# Altium schematic symbol library VibinTest1_1.SCHLIB: 8 symbols
Pins are listed as number, name and electrical type; pins without a type are passive.

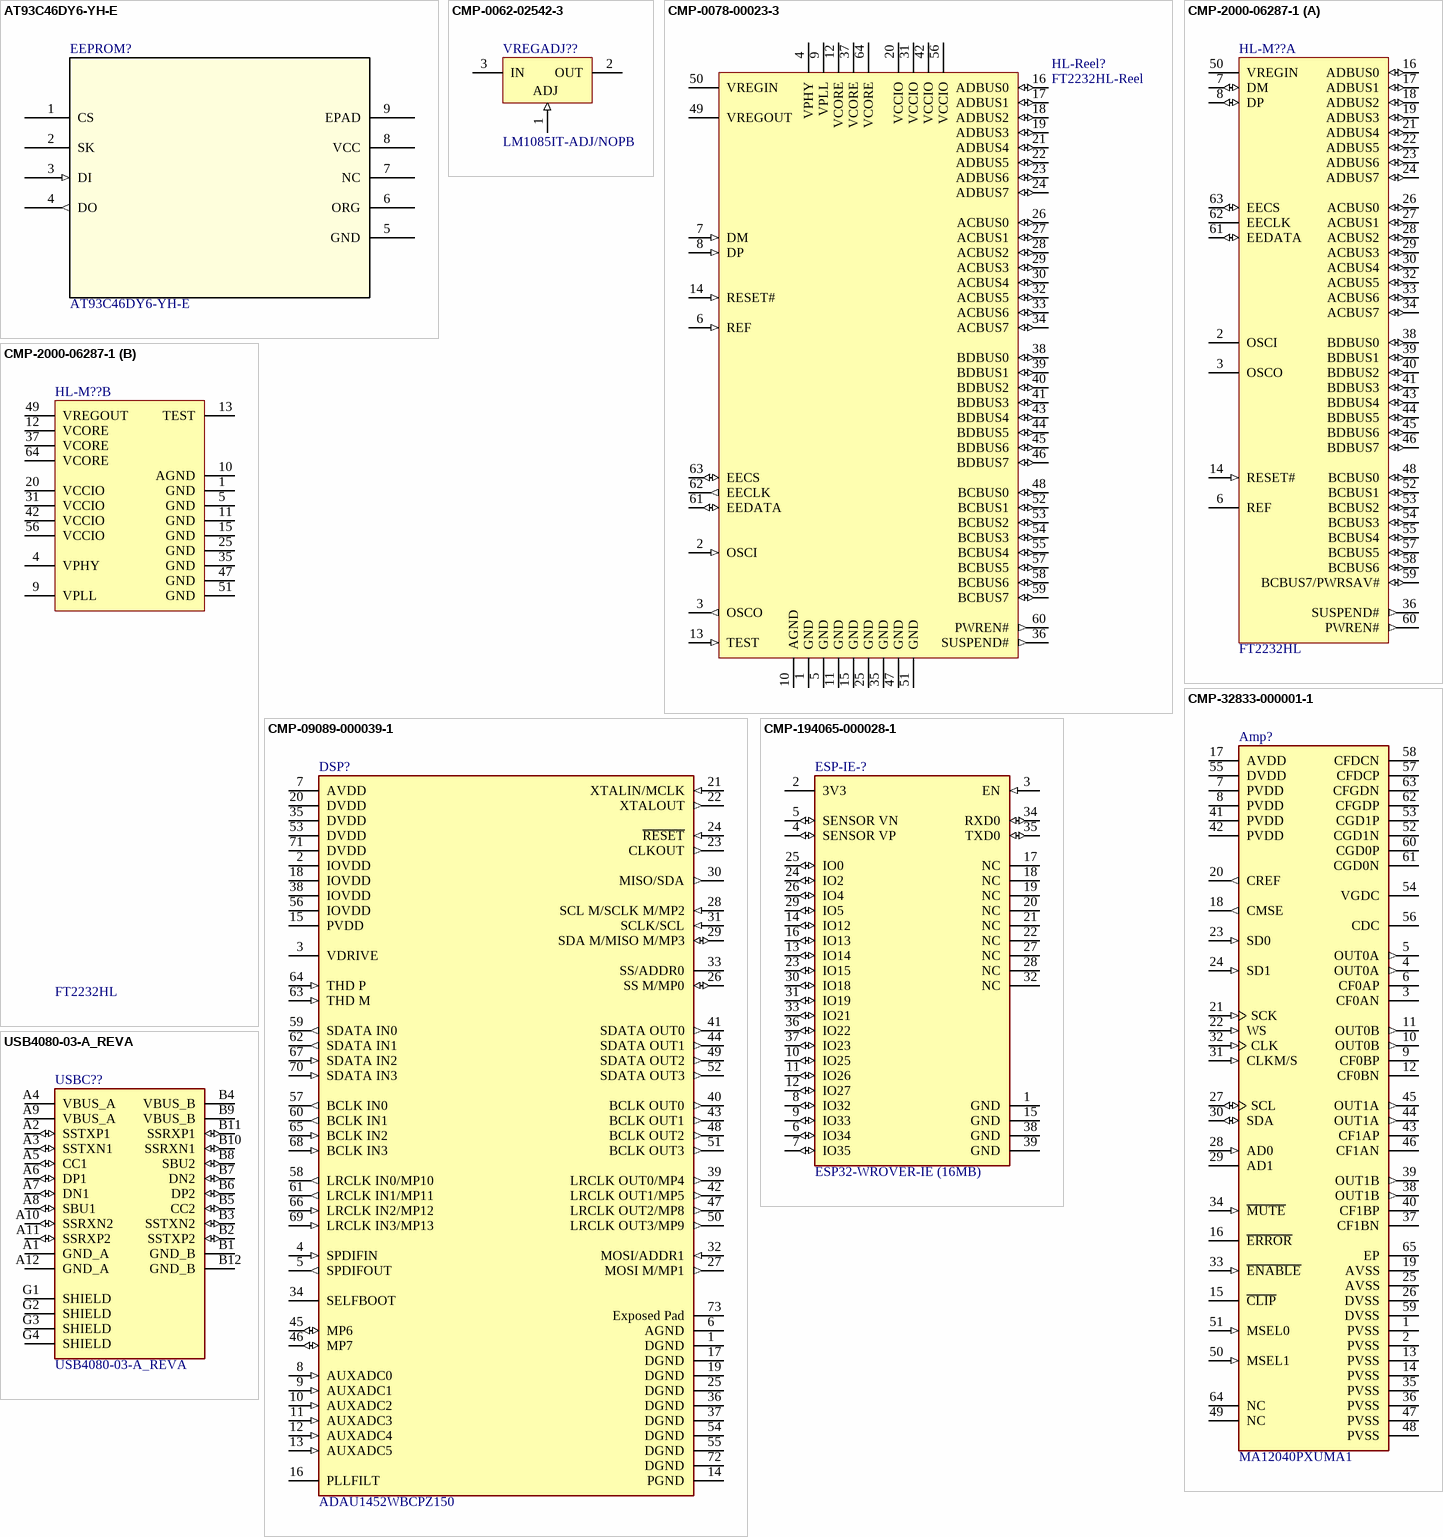
[diagram p0: symbols AT93C46DY6-YH-E to USB4080-03-A_REVA]

## AT93C46DY6-YH-E
designator EEPROM?
No Description Available; Mfr_Name: Microchip; Copyright: Copyright (C) 2022 Ultra Librarian. All rights reserved.; Manufacturer_Part_Number: AT93C46DY6-YH-E; Digi-Key_Part_Number_1: AT93C46DY6-YH-ECT-ND; Digi-Key_Part_Number_2: AT93C46DY6-YH-EDKR-ND; Digi-Key_Part_Number_3: AT93C46DY6-YH-ETR-ND; RefDes: RefDes; Type: DEV
footprint 8Y6_MCH
pins: 1 CS, 2 SK, 3 DI (in), 4 DO (out), 5 GND (power), 6 ORG (power), 7 NC, 8 VCC (power), 9 EPAD

## CMP-0062-02542-3
designator VREGADJ??, comment LM1085IT-ADJ/NOPB
3A Low Dropout Positive Regulators, 3-pin TO-220, Pb-Free; Manufacturer: Texas Instruments; Manufacturer: TI National Semiconductor; PowerWise: N; CompType: LDO IC; PackageTopMarking: NSUZXYTTE#*LM1085*IT-ADJ; ComponentLink1URL: http://www.ti.com/general/docs/lit/getliterature.tsp?genericPartNumber=LM1085&fileType=pdf; PackageDescription: TO-220, Molded, 3 Lead, Straight; PinCount: 3; ComponentLink1Description: Datasheet URL; PackageReference: NDE0003A; RoHS: Y; Manufacturer Part Number: LM1085IT-ADJ/NOPB
footprint NDE0003A (FM, 3-Leads, Body 10.7x4.7mm, Pitch 2.54mm)
pins: 1 ADJ (in), 2 OUT (power), 3 IN (power)

## CMP-0078-00023-3
designator HL-Reel?, comment FT2232HL-Reel
Dual High Speed USB To Multipurpose UART/FIFO IC, 64-pin LQFP, Tape and Reel; Manufacturer: FTDI; DatasheetVersion: ver 2.21, Jun-2012; ComponentLink1URL: http://www.ftdichip.com/; PartNumber: FT2232HL-Reel; ComponentLink2Description: Datasheet; RevisionNote: DatasheetVersion updated to 2.21 Jun-2012; PackageVersion: Jun-12; ComponentLink1Description: Manufacturer URL; ComponentLink2URL: http://www.ftdichip.com/Support/Documents/DataSheets/ICs/DS_FT2232H.pdf; PackageReference: LQFP-64; PackageDescription: 64-Pin Thin Quad Flat Pack, 10 x 10 x 1.4 mm Body, 0.5 mm Pitch; Manufacturer Part Number: FT2232HL-REEL
footprint LQFP-64_M (Thin QFP, 64-Leads, Body 10x10mm, Pitch 0.5mm, IPC Low Density)
footprint LQFP-64_L (Thin QFP, 64-Leads, Body 10x10mm, Pitch 0.5mm, IPC High Density)
footprint FTDI-LQFP-64_M (QFP, 64-Leads, Body 10.00x10.00mm, Pitch 0.50mm, IPC Low Density)
footprint FTDI-LQFP-64_M (QFP, 64-Leads, Body 10.00x10.00mm, Pitch 0.50mm, IPC Low Density)
pins: 1 GND (power), 2 OSCI (in), 3 OSCO (out), 4 VPHY (power), 5 GND (power), 6 REF (in), 7 DM (in), 8 DP (in), 9 VPLL (power), 10 AGND (power), 11 GND (power), 12 VCORE (power), 13 TEST (in), 14 RESET# (in), 15 GND (power), 16 ADBUS0 (io), 17 ADBUS1 (io), 18 ADBUS2 (io), 19 ADBUS3 (io), 20 VCCIO (power), 21 ADBUS4 (io), 22 ADBUS5 (io), 23 ADBUS6 (io), 24 ADBUS7 (io), 25 GND (power), 26 ACBUS0 (io), 27 ACBUS1 (io), 28 ACBUS2 (io), 29 ACBUS3 (io), 30 ACBUS4 (io), 31 VCCIO (power), 32 ACBUS5 (io), 33 ACBUS6 (io), 34 ACBUS7 (io), 35 GND (power), 36 SUSPEND# (out), 37 VCORE (power), 38 BDBUS0 (io), 39 BDBUS1 (io), 40 BDBUS2 (io), 41 BDBUS3 (io), 42 VCCIO (power), 43 BDBUS4 (io), 44 BDBUS5 (io), 45 BDBUS6 (io), 46 BDBUS7 (io), 47 GND (power), 48 BCBUS0 (io), 49 VREGOUT (power), 50 VREGIN (power), 51 GND (power), 52 BCBUS1 (io), 53 BCBUS2 (io), 54 BCBUS3 (io), 55 BCBUS4 (io), 56 VCCIO (power), 57 BCBUS5 (io), 58 BCBUS6 (io), 59 BCBUS7 (io), 60 PWREN# (out), 61 EEDATA (io), 62 EECLK (out), 63 EECS (io), 64 VCORE (power)

## CMP-2000-06287-1
designator HL-M??, comment FT2232HL
Dual High Speed USB to Multipurpose UART / FIFO IC / , 3 to 3.6 V, -40 to 85 degC, 64- Pin LQFP, RoHS; Manufacturer: FTDI; Number of Channels per Chip: 2; Standard Supported: RS232,RS422,RS485; Maximum Data Rate: 480Mbit/s; Package Description: 64-Pin Low-profile Quad Flat Package, Body 10 x 10 mm, Pitch 0.5 mm; Maximum Operating Temperature: +85°C; Mounting Technology: SurfaceMount; Pin Count: 64; Package Reference: LQFP-64; Manufacturer URL: http://www.nxp.com/; Length: 10mm; Width: 10mm; Minimum Operating Temperature: -40°C; Dimensions: 10x10x1.4mm; Package Type: LQFP; Mounting Type: SurfaceMount; Datasheet URL: http://www.ftdichip.com/Support/Documents/DataSheets/ICs/DS_FT2232H.pdf; Datasheet Version: Rev. 2.5, 07/2016; Height: 1.4mm; Manufacturer Part Number: FT2232HL
footprint FTDI-LQFP-64_L (QFP, 64-Leads, Body 10.00x10.00mm, Pitch 0.50mm, IPC High Density)
footprint FTDI-LQFP-64_M (QFP, 64-Leads, Body 10.00x10.00mm, Pitch 0.50mm, IPC Low Density)
footprint FTDI-LQFP-64_N (QFP, 64-Leads, Body 10.00x10.00mm, Pitch 0.50mm, IPC Medium Density)
part A pins: 2 OSCI "Oscillator input.", 3 OSCO "Oscillator output.", 6 REF "Current reference - connect via a 12Kohm resistor @ 1% to GND.", 7 DM (io) "USB Data Signal Minus.", 8 DP (io) "USB Data Signal Plus.", 14 RESET# (in) "Reset input (active low).", 16 ADBUS0 (io) "D0 bidirectional FIFO data", 17 ADBUS1 (io) "D1 bidirectional FIFO data", 18 ADBUS2 (io) "D2 bidirectional FIFO data", 19 ADBUS3 (io) "D3 bidirectional FIFO data", 21 ADBUS4 (io) "D4 bidirectional FIFO data", 22 ADBUS5 (io) "D5 bidirectional FIFO data", 23 ADBUS6 (io) "D6 bidirectional FIFO data", 24 ADBUS7 (io) "D7 bidirectional FIFO data", 26 ACBUS0 (io) "C0 bidirectional FIFO data", 27 ACBUS1 (io) "C1 bidirectional FIFO data", 28 ACBUS2 (io) "C2 bidirectional FIFO data", 29 ACBUS3 (io) "C3 bidirectional FIFO data", 30 ACBUS4 (io) "C4 bidirectional FIFO data", 32 ACBUS5 (io) "C5 bidirectional FIFO data", 33 ACBUS6 (io) "C6 bidirectional FIFO data", 34 ACBUS7 (io) "C7 bidirectional FIFO data", 36 SUSPEND# (out) "Active low when USB is in suspend mode.", 38 BDBUS0 (io) "D0 bidirectional FIFO data", 39 BDBUS1 (io) "D1 bidirectional FIFO data", 40 BDBUS2 (io) "D2 bidirectional FIFO data", 41 BDBUS3 (io) "D3 bidirectional FIFO data", 43 BDBUS4 (io) "D4 bidirectional FIFO data", 44 BDBUS5 (io) "D5 bidirectional FIFO data", 45 BDBUS6 (io) "D6 bidirectional FIFO data", 46 BDBUS7 (io) "D7 bidirectional FIFO data", 48 BCBUS0 (io) "C0 bidirectional FIFO data", 50 VREGIN (power) "+3.3V Input. Integrated 1.8V voltage regulator input.", 52 BCBUS1 (io) "C1 bidirectional FIFO data", 53 BCBUS2 (io) "C2 bidirectional FIFO data", 54 BCBUS3 (io) "C3 bidirectional FIFO data", 55 BCBUS4 (io) "C4 bidirectional FIFO data", 57 BCBUS5 (io) "C5 bidirectional FIFO data", 58 BCBUS6 (io) "C6 bidirectional FIFO data", 59 BCBUS7/PWRSAV# (io), 60 PWREN# (out) "Active low power-enable output.", 61 EEDATA (io) "EEPROM - Data I/O Connect directly to Data-In of the EEPROM and to Data-Out of the EEPROM via a 2.2K resistor. Also, pull Data-Out of the EEPROM to VCC via a 10K resistor for correct operation. Tri-State during device reset.", 62 EECLK (hiz) "Clock signal to EEPROM. Tri-State during device reset. When not in reset, this outputs the EEPROM clock.", 63 EECS (io) "EEPROM - Chip Select. Tri-State during device reset."
part B pins: 1 GND (power) "0V Ground input.", 4 VPHY (power) "+3.3V Input. Internal USB PHY power supply input. Note that this cannot be connected directly to the USB supply. A +3.3V regulator must be used. It is recommended that this supply is filtered using an LC filter.", 5 GND (power) "0V Ground input.", 9 VPLL (power) "+3.3V input. Internal PHY PLL power supply input. It is recommended that this supply is filtered using an LC filter.", 10 AGND (power) "0V Analog ground.", 11 GND (power) "0V Ground input.", 12 VCORE (power) "+1.8V input. Core supply voltage input.", 13 TEST "IC test pin - for normal operation should be connected to GND.", 15 GND (power) "0V Ground input.", 20 VCCIO (power) "+3.3V input. I/O interface power supply input. Failure to connect all VCCIO pins will result in failure of the device.", 25 GND (power) "0V Ground input.", 31 VCCIO (power) "+3.3V input. I/O interface power supply input. Failure to connect all VCCIO pins will result in failure of the device.", 35 GND (power) "0V Ground input.", 37 VCORE (power) "+1.8V input. Core supply voltage input.", 42 VCCIO (power) "+3.3V input. I/O interface power supply input. Failure to connect all VCCIO pins will result in failure of the device.", 47 GND (power) "0V Ground input.", 49 VREGOUT (power) "+1.8V Output. Integrated voltage regulator output. Connect to VCORE with 3.3uF filter capacitor.", 51 GND (power) "0V Ground input.", 56 VCCIO (power) "+3.3V input. I/O interface power supply input. Failure to connect all VCCIO pins will result in failure of the device.", 64 VCORE (power) "+1.8V input. Core supply voltage input."

## CMP-09089-000039-1
designator DSP?, comment ADAU1452WBCPZ150
150 MHZ 32BIT SIGMADSP AUDIO PRO; Manufacturer: Analog Devices; RoHS Compliant: Yes; Manufacturer Part Number: ADAU1452WBCPZ150
footprint FP-CP-72-6-IPC_B
footprint FP-CP-72-6-IPC_A
footprint FP-CP-72-6-IPC_C
ibis ADAU1452 (Model Description)
pins: 1 DGND (power), 2 IOVDD (power), 3 VDRIVE (power), 4 SPDIFIN (in), 5 SPDIFOUT (out), 6 AGND (power), 7 AVDD (power), 8 AUXADC0 (in), 9 AUXADC1 (in), 10 AUXADC2 (in), 11 AUXADC3 (in), 12 AUXADC4 (in), 13 AUXADC5 (in), 14 PGND (power), 15 PVDD (power), 16 PLLFILT, 17 DGND (power), 18 IOVDD (power), 19 DGND (power), 20 DVDD (power), 21 XTALIN/MCLK (in), 22 XTALOUT (out), 23 CLKOUT (out), 24 ~{RESET} (in), 25 DGND (power), 26 SS M/MP0 (io), 27 MOSI M/MP1 (out), 28 SCL M/SCLK M/MP2 (in), 29 SDA M/MISO M/MP3 (io), 30 MISO/SDA (out), 31 SCLK/SCL (in), 32 MOSI/ADDR1 (in), 33 SS/ADDR0, 34 SELFBOOT, 35 DVDD (power), 36 DGND (power), 37 DGND (power), 38 IOVDD (power), 39 LRCLK OUT0/MP4 (out), 40 BCLK OUT0 (out), 41 SDATA OUT0 (out), 42 LRCLK OUT1/MP5 (out), 43 BCLK OUT1 (out), 44 SDATA OUT1 (out), 45 MP6 (io), 46 MP7 (io), 47 LRCLK OUT2/MP8 (out), 48 BCLK OUT2 (out), 49 SDATA OUT2 (out), 50 LRCLK OUT3/MP9 (out), 51 BCLK OUT3 (out), 52 SDATA OUT3 (out), 53 DVDD (power), 54 DGND (power), 55 DGND (power), 56 IOVDD (power), 57 BCLK IN0 (out), 58 LRCLK IN0/MP10 (out), 59 SDATA IN0 (out), 60 BCLK IN1 (out), 61 LRCLK IN1/MP11 (out), 62 SDATA IN1 (out), 63 THD M (in), 64 THD P (in), 65 BCLK IN2 (in), 66 LRCLK IN2/MP12 (in), 67 SDATA IN2 (in), 68 BCLK IN3 (in), 69 LRCLK IN3/MP13 (in), 70 SDATA IN3 (in), 71 DVDD (power), 72 DGND (power), 73 Exposed Pad (power)

## CMP-32833-000001-1
designator Amp?, comment MA12040PXUMA1
IC AMP CLASS D STEREO 40W 64QFN; Manufacturer: Infineon; Max Junction Temp: +150°C; Max Supply Voltage: 18V; Output Current Per Channel: 6A; Number Of Channels: 1; Min Supply Voltage: 4V; Nominal Supply Current: 6-38mA; Power At Speaker R: 20W @ 8Ω; Ambient Temperature Range High: +85°C; Ambient Temperature Range Low: 0°C; RoHS: TRUE; Temperature: -40°C to +150°C; Device Class L1: Integrated Circuits (ICs); Height: 0.9mm; Lead Free: Yes; Octopart: https://octopart.com/ma12040pxuma1-infineon-95984592; ComponentLink2URL: https://www.infineon.com/dgdl/Infineon-MA12040P-DS-v01_00-EN.pdf?fileId=5546d46264a8de7e0164b74ff0e561a2; Category: IC; Manufacturer Part Number: MA12040PXUMA1; Temperature Range High: +150°C; Ipc Land Pattern Name: QFN50P900X900X90-64; Automotive: No; Digikey Description: IC AMP CLASS D STEREO 40W 64QFN; Device Class L2: Linear ICs; Device Class L3: Amplifiers - Audio; Temperature Range Low: -40°C; Footprint Url: https://www.infineon.com/cms/en/product/packages/PG-VQFN/PG-VQFN-64-6/; ComponentLink2Description: Datasheet; Package: PG-VQFN-64
footprint FP-PG-VQFN-64-IPC_C
footprint FP-PG-VQFN-64-IPC_B
footprint FP-PG-VQFN-64-IPC_A
pins: 1 PVSS (power), 2 PVSS (power), 3 CF0AN, 4 OUT0A (out), 5 OUT0A (out), 6 CF0AP, 7 PVDD (power), 8 PVDD (power), 9 CF0BP, 10 OUT0B (out), 11 OUT0B (out), 12 CF0BN, 13 PVSS (power), 14 PVSS (power), 15 ~{CLIP} (oc), 16 ~{ERROR} (oc), 17 AVDD (power), 18 CMSE (out), 19 AVSS (power), 20 CREF (out), 21 SCK (in), 22 WS (in), 23 SD0 (in), 24 SD1 (in), 25 AVSS (power), 26 DVSS (power), 27 SCL (io), 28 AD0 (in), 29 AD1, 30 SDA (io), 31 CLKM/S (in), 32 CLK (in), 33 ~{ENABLE} (in), 34 ~{MUTE} (in), 35 PVSS (power), 36 PVSS (power), 37 CF1BN, 38 OUT1B (out), 39 OUT1B (out), 40 CF1BP, 41 PVDD (power), 42 PVDD (power), 43 CF1AP, 44 OUT1A (out), 45 OUT1A (out), 46 CF1AN, 47 PVSS (power), 48 PVSS (power), 49 NC, 50 MSEL1 (in), 51 MSEL0 (in), 52 CGD1N, 53 CGD1P, 54 VGDC (power), 55 DVDD (power), 56 CDC, 57 CFDCP, 58 CFDCN, 59 DVSS (power), 60 CGD0P, 61 CGD0N, 62 CFGDP, 63 CFGDN, 64 NC, 65 EP (power)

## CMP-194065-000028-1
designator ESP-IE-?, comment ESP32-WROVER-IE (16MB)
RX TXRX MOD WIFI EXT IPEX SMD; Manufacturer: Espressif Systems; Manufacturer Part Number: ESP32-WROVER-IE(16MB)
footprint FP-ESP32-WROVER-IE_16MB-MFG
pins: 1 GND (power), 2 3V3 (power), 3 EN (in), 4 SENSOR VP (io), 5 SENSOR VN (io), 6 IO34 (io), 7 IO35 (io), 8 IO32 (io), 9 IO33 (io), 10 IO25 (io), 11 IO26 (io), 12 IO27 (io), 13 IO14 (io), 14 IO12 (io), 15 GND (power), 16 IO13 (io), 17 NC, 18 NC, 19 NC, 20 NC, 21 NC, 22 NC, 23 IO15 (io), 24 IO2 (io), 25 IO0 (io), 26 IO4 (io), 27 NC, 28 NC, 29 IO5 (io), 30 IO18 (io), 31 IO19 (io), 32 NC, 33 IO21 (io), 34 RXD0 (io), 35 TXD0 (io), 36 IO22 (io), 37 IO23 (io), 38 GND (power), 39 GND (power)

## USB4080-03-A_REVA
designator USBC??
USB-C (USB TYPE-C) USB 3.2 Gen 2 (USB 3.1 Gen 2, Superspeed + (USB 3.1)) Receptacle Connector 24 Position Surface Mount, Right Angle; Through Hole; MF: Global Connector Technology; Package: None; Check_prices: https://www.snapeda.com/parts/USB4080-03-A/Global+Connector+Technology/view-part/?ref=eda; Value: *; MP: USB4080-03-A; Availability: In Stock; SnapEDA_Link: https://www.snapeda.com/parts/USB4080-03-A/Global+Connector+Technology/view-part/?ref=snap; Purchase-URL: https://pricing.snapeda.com/search/part/USB4080-03-A/?ref=eda; Price: None
footprint GCT_USB4080-03-A_REVA
pins: A1 GND_A (power), A2 SSTXP1 (io), A3 SSTXN1 (io), A4 VBUS_A (power), A5 CC1 (io), A6 DP1 (io), A7 DN1 (io), A8 SBU1 (io), A9 VBUS_A (power), A10 SSRXN2 (io), A11 SSRXP2 (io), A12 GND_A (power), B1 GND_B (power), B2 SSTXP2 (io), B3 SSTXN2 (io), B4 VBUS_B (power), B5 CC2 (io), B6 DP2 (io), B7 DN2 (io), B8 SBU2 (io), B9 VBUS_B (power), B10 SSRXN1 (io), B11 SSRXP1 (io), B12 GND_B (power), G1 SHIELD, G2 SHIELD, G3 SHIELD, G4 SHIELD